# Altium integrated library National Semiconductor OtherParts.IntLib: 205 symbols (part 4 of 7)
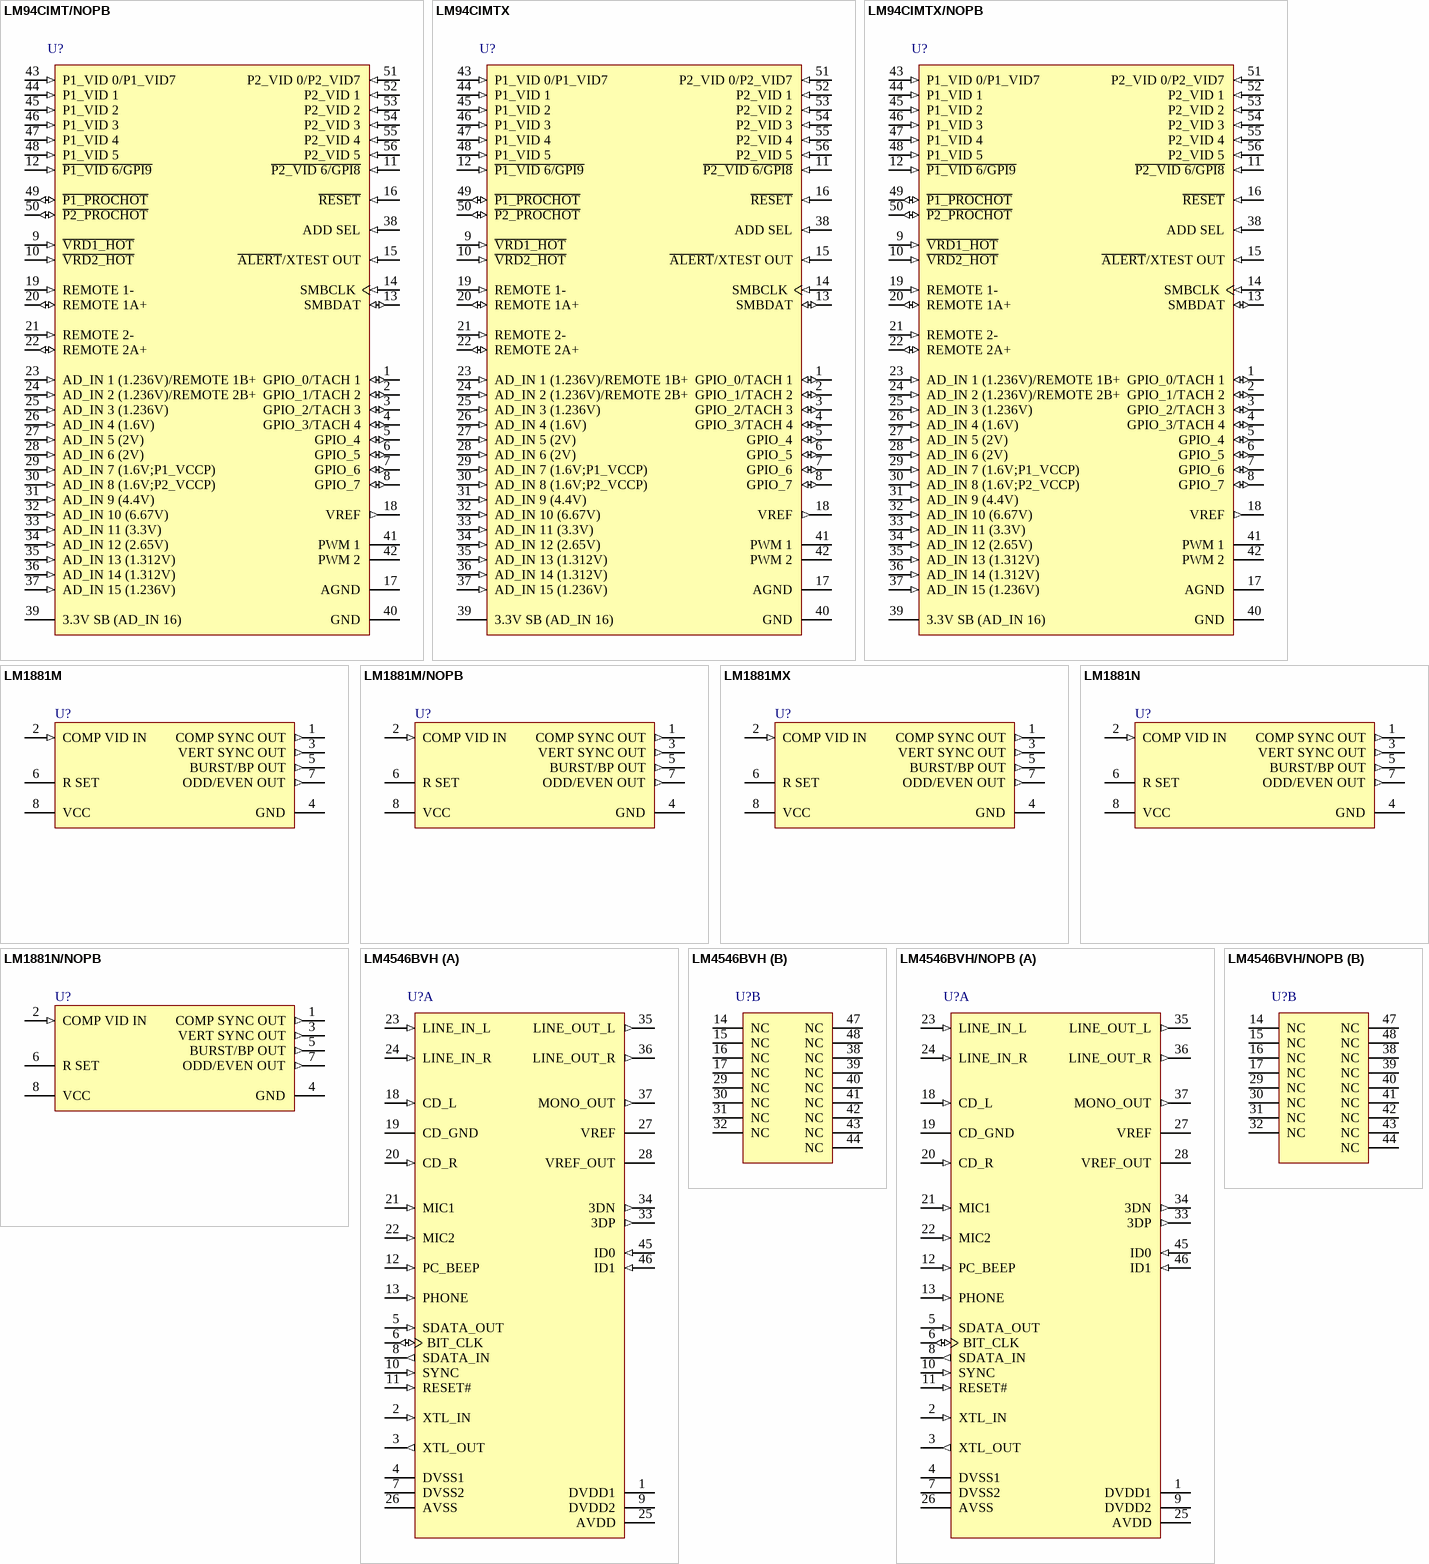
[diagram p15: symbols LM94CIMT/NOPB to LM4546BVH/NOPB]

## LM1881M/NOPB
designator U?
Video Sync Separator, 8-pin Narrow SOIC, Pb-Free; PartNumber: LM1881M/NOPB; Manufacturer: National Semiconductor; PackageTopMarking: NSZXTT*LM*1881M; PowerWise: N; CompType: OtherParts; High-Reliability: Y; DatasheetVersion: May-2006; PackageVersion: revM, May-2009; PackageReference: M08A; PackageDescription: SOIC Narrow, 4.9 x 3.9 x 1.45mm, 8 Lead, 1.27mm Pitch; RoHS: Y; PinCount: 8; Code_JEDEC: MS-012-AA; Code_IPC: SOIC127P600-8; ComponentLink1Description: Manufacturer URL; ComponentLink1URL: http://www.national.com/; ComponentLink2Description: LM1881 Datasheet; ComponentLink2URL: http://www.national.com/ds/LM/LM1881.pdf; ComponentLink3Description: LM1881 Web Page; ComponentLink3URL: http://www.national.com/pf/LM/LM1881.html; ComponentLink4Description: M08A Package Page; ComponentLink4URL: http://www.national.com/packaging/folders/m08a.html
footprint M08A_N (SOIC, 8-Leads, Body 4.9x3.9mm, Pitch 1.27mm, IPC Medium Density)
footprint M08A_L (SOIC, 8-Leads, Body 4.9x3.9mm, Pitch 1.27mm, IPC High Density)
footprint M08A_M (SOIC, 8-Leads, Body 4.9x3.9mm, Pitch 1.27mm, IPC Low Density)
pins: 1 COMP SYNC OUT (out), 2 COMP VID IN (in), 3 VERT SYNC OUT (out), 4 GND (power), 5 BURST/BP OUT (out), 6 R SET, 7 ODD/EVEN OUT (out), 8 VCC (power)

## LM1881MX
designator U?
Video Sync Separator, 8-pin Narrow SOIC; PartNumber: LM1881MX; Manufacturer: National Semiconductor; PackageTopMarking: NSZXTT*LM*1881M; PowerWise: N; CompType: OtherParts; High-Reliability: Y; DatasheetVersion: May-2006; PackageVersion: revM, May-2009; PackageReference: M08A; PackageDescription: SOIC Narrow, 4.9 x 3.9 x 1.45mm, 8 Lead, 1.27mm Pitch; RoHS: N; PinCount: 8; Code_JEDEC: MS-012-AA; Code_IPC: SOIC127P600-8; ComponentLink1Description: Manufacturer URL; ComponentLink1URL: http://www.national.com/; ComponentLink2Description: LM1881 Datasheet; ComponentLink2URL: http://www.national.com/ds/LM/LM1881.pdf; ComponentLink3Description: LM1881 Web Page; ComponentLink3URL: http://www.national.com/pf/LM/LM1881.html; ComponentLink4Description: M08A Package Page; ComponentLink4URL: http://www.national.com/packaging/folders/m08a.html
footprint M08A_N (SOIC, 8-Leads, Body 4.9x3.9mm, Pitch 1.27mm, IPC Medium Density)
footprint M08A_L (SOIC, 8-Leads, Body 4.9x3.9mm, Pitch 1.27mm, IPC High Density)
footprint M08A_M (SOIC, 8-Leads, Body 4.9x3.9mm, Pitch 1.27mm, IPC Low Density)
pins: 1 COMP SYNC OUT (out), 2 COMP VID IN (in), 3 VERT SYNC OUT (out), 4 GND (power), 5 BURST/BP OUT (out), 6 R SET, 7 ODD/EVEN OUT (out), 8 VCC (power)

## LM1881N
designator U?
Video Sync Separator, 8-pin MDIP; PartNumber: LM1881N; Manufacturer: National Semiconductor; PackageTopMarking: NSUZXYTTE#*LM1881N; PowerWise: N; CompType: OtherParts; High-Reliability: Y; DatasheetVersion: May-2006; PackageVersion: revG, May-2006; PackageReference: N08E; PackageDescription: MDIP, .365 x .250 x .130in, 8 Lead, .100in Pitch; RoHS: N; Pin Count: 8; Code_JEDEC: MS-001-BA; ComponentLink1Description: Manufacturer URL; ComponentLink1URL: http://www.national.com/; ComponentLink2Description: LM1881 Datasheet; ComponentLink2URL: http://www.national.com/ds/LM/LM1881.pdf; ComponentLink3Description: LM1881 Web Page; ComponentLink3URL: http://www.national.com/pf/LM/LM1881.html; ComponentLink4Description: N08E Package Page; ComponentLink4URL: http://www.national.com/packaging/folders/n08e.html
footprint N08E (DIP, 8-Leads, Row Spacing 7.62mm, Pitch 2.54mm, Body 9.91x6.35mm)
pins: 1 COMP SYNC OUT (out), 2 COMP VID IN (in), 3 VERT SYNC OUT (out), 4 GND (power), 5 BURST/BP OUT (out), 6 R SET, 7 ODD/EVEN OUT (out), 8 VCC (power)

## LM1881N/NOPB
designator U?
Video Sync Separator, 8-pin MDIP, Pb-Free; PartNumber: LM1881N/NOPB; Manufacturer: National Semiconductor; PackageTopMarking: NSUZXYTTE#*LM1881N; PowerWise: N; CompType: OtherParts; High-Reliability: Y; DatasheetVersion: May-2006; PackageVersion: revG, May-2006; PackageReference: N08E; PackageDescription: MDIP, .365 x .250 x .130in, 8 Lead, .100in Pitch; RoHS: Y; PinCount: 8; Code_JEDEC: MS-001-BA; ComponentLink1Description: Manufacturer URL; ComponentLink1URL: http://www.national.com/; ComponentLink2Description: LM1881 Datasheet; ComponentLink2URL: http://www.national.com/ds/LM/LM1881.pdf; ComponentLink3Description: LM1881 Web Page; ComponentLink3URL: http://www.national.com/pf/LM/LM1881.html; ComponentLink4Description: N08E Package Page; ComponentLink4URL: http://www.national.com/packaging/folders/n08e.html
footprint N08E (DIP, 8-Leads, Row Spacing 7.62mm, Pitch 2.54mm, Body 9.91x6.35mm)
pins: 1 COMP SYNC OUT (out), 2 COMP VID IN (in), 3 VERT SYNC OUT (out), 4 GND (power), 5 BURST/BP OUT (out), 6 R SET, 7 ODD/EVEN OUT (out), 8 VCC (power)

## LM4546BVH
designator U?
AC '97 Rev 2.1 Codec with Sample Rate Conversion and National 3D Sound, 48-pin LQFP; PartNumber: LM4546BVH; Manufacturer: National Semiconductor; PackageTopMarking: NSUZXYTT*LM4546*BVH; PowerWise: N; CompType: OtherParts; High-Reliability: Y; DatasheetVersion: Sep-2006; PackageVersion: revE, May-2007; PackageReference: VBH48A; PackageDescription: LQFP, 7 x 7 x 1.4mm, 48 Lead, 0.5mm Pitch; RoHS: N; PinCount: 48; ComponentLink1Description: Manufacturer URL; ComponentLink1URL: http://www.national.com/; ComponentLink2Description: LM4546B Datasheet; ComponentLink2URL: http://www.national.com/ds/LM/LM4546B.pdf; ComponentLink3Description: LM4546B Web Page; ComponentLink3URL: http://www.national.com/pf/LM/LM4546B.html; ComponentLink4Description: VBH48A Package Page; ComponentLink4URL: http://www.national.com/packaging/folders/vbh48a.html
footprint VBH48A_N (Thin QFP, 48-Leads, Body 7x7mm, Pitch 0.5mm, IPC Medium Density)
footprint VBH48A_L (Thin QFP, 48-Leads, Body 7x7mm, Pitch 0.5mm, IPC High Density)
footprint VBH48A_M (Thin QFP, 48-Leads, Body 7x7mm, Pitch 0.5mm, IPC Low Density)
part A pins: 1 DVDD1 (power), 2 XTL_IN (in), 3 XTL_OUT (out), 4 DVSS1 (power), 5 SDATA_OUT (in), 6 BIT_CLK (io), 7 DVSS2 (power), 8 SDATA_IN (out), 9 DVDD2 (power), 10 SYNC (in), 11 RESET# (in), 12 PC_BEEP (in), 13 PHONE (in), 18 CD_L (in), 19 CD_GND (power), 20 CD_R (in), 21 MIC1 (in), 22 MIC2 (in), 23 LINE_IN_L (in), 24 LINE_IN_R (in), 25 AVDD (power), 26 AVSS (power), 27 VREF (power), 28 VREF_OUT (power), 33 3DP (out), 34 3DN (out), 35 LINE_OUT_L (out), 36 LINE_OUT_R (out), 37 MONO_OUT (out), 45 ID0 (in), 46 ID1 (in)
part B pins: 14 NC, 15 NC, 16 NC, 17 NC, 29 NC, 30 NC, 31 NC, 32 NC, 38 NC, 39 NC, 40 NC, 41 NC, 42 NC, 43 NC, 44 NC, 47 NC, 48 NC

## LM4546BVH/NOPB
designator U?
AC '97 Rev 2.1 Codec with Sample Rate Conversion and National 3D Sound, 48-pin LQFP, Pb-Free; PartNumber: LM4546BVH/NOPB; Manufacturer: National Semiconductor; PackageTopMarking: NSUZXYTT*LM4546*BVH; PowerWise: N; CompType: OtherParts; High-Reliability: Y; DatasheetVersion: Sep-2006; PackageVersion: revE, May-2007; PackageReference: VBH48A; PackageDescription: LQFP, 7 x 7 x 1.4mm, 48 Lead, 0.5mm Pitch; RoHS: Y; PinCount: 48; ComponentLink1Description: Manufacturer URL; ComponentLink1URL: http://www.national.com/; ComponentLink2Description: LM4546B Datasheet; ComponentLink2URL: http://www.national.com/ds/LM/LM4546B.pdf; ComponentLink3Description: LM4546B Web Page; ComponentLink3URL: http://www.national.com/pf/LM/LM4546B.html; ComponentLink4Description: VBH48A Package Page; ComponentLink4URL: http://www.national.com/packaging/folders/vbh48a.html
footprint VBH48A_N (Thin QFP, 48-Leads, Body 7x7mm, Pitch 0.5mm, IPC Medium Density)
footprint VBH48A_L (Thin QFP, 48-Leads, Body 7x7mm, Pitch 0.5mm, IPC High Density)
footprint VBH48A_M (Thin QFP, 48-Leads, Body 7x7mm, Pitch 0.5mm, IPC Low Density)
part A pins: 1 DVDD1 (power), 2 XTL_IN (in), 3 XTL_OUT (out), 4 DVSS1 (power), 5 SDATA_OUT (in), 6 BIT_CLK (io), 7 DVSS2 (power), 8 SDATA_IN (out), 9 DVDD2 (power), 10 SYNC (in), 11 RESET# (in), 12 PC_BEEP (in), 13 PHONE (in), 18 CD_L (in), 19 CD_GND (power), 20 CD_R (in), 21 MIC1 (in), 22 MIC2 (in), 23 LINE_IN_L (in), 24 LINE_IN_R (in), 25 AVDD (power), 26 AVSS (power), 27 VREF (power), 28 VREF_OUT (power), 33 3DP (out), 34 3DN (out), 35 LINE_OUT_L (out), 36 LINE_OUT_R (out), 37 MONO_OUT (out), 45 ID0 (in), 46 ID1 (in)
part B pins: 14 NC, 15 NC, 16 NC, 17 NC, 29 NC, 30 NC, 31 NC, 32 NC, 38 NC, 39 NC, 40 NC, 41 NC, 42 NC, 43 NC, 44 NC, 47 NC, 48 NC

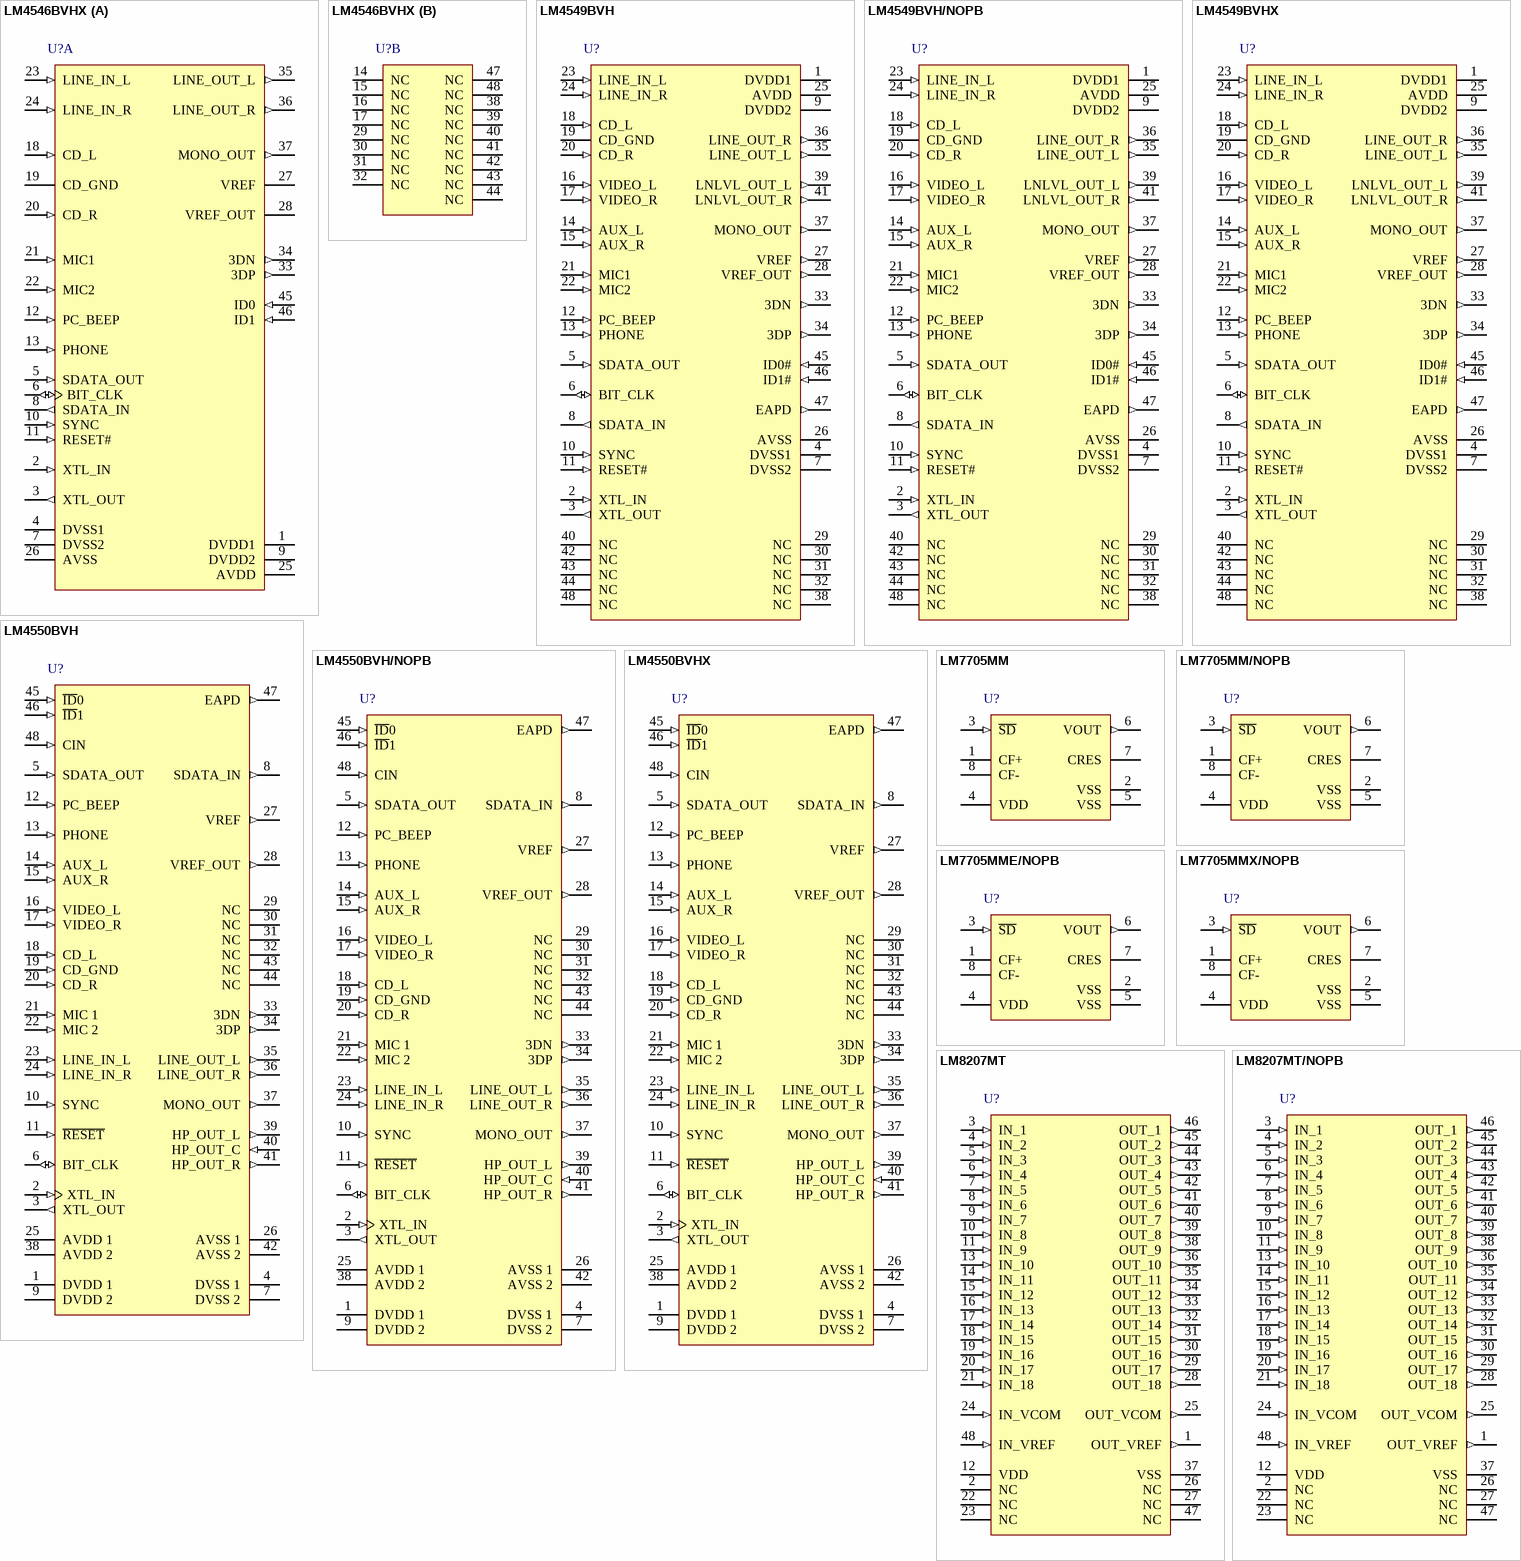
[diagram p5: symbols LM4546BVHX to LM8207MT/NOPB]

## LM4546BVHX
designator U?
AC '97 Rev 2.1 Codec with Sample Rate Conversion and National 3D Sound, 48-pin LQFP; PartNumber: LM4546BVHX; Manufacturer: National Semiconductor; PackageTopMarking: NSUZXYTT*LM4546*BVH; PowerWise: N; CompType: OtherParts; High-Reliability: Y; DatasheetVersion: Sep-2006; PackageVersion: revE, May-2007; PackageReference: VBH48A; PackageDescription: LQFP, 7 x 7 x 1.4mm, 48 Lead, 0.5mm Pitch; RoHS: N; PinCount: 48; ComponentLink1Description: Manufacturer URL; ComponentLink1URL: http://www.national.com/; ComponentLink2Description: LM4546B Datasheet; ComponentLink2URL: http://www.national.com/ds/LM/LM4546B.pdf; ComponentLink3Description: LM4546B Web Page; ComponentLink3URL: http://www.national.com/pf/LM/LM4546B.html; ComponentLink4Description: VBH48A Package Page; ComponentLink4URL: http://www.national.com/packaging/folders/vbh48a.html
footprint VBH48A_N (Thin QFP, 48-Leads, Body 7x7mm, Pitch 0.5mm, IPC Medium Density)
footprint VBH48A_L (Thin QFP, 48-Leads, Body 7x7mm, Pitch 0.5mm, IPC High Density)
footprint VBH48A_M (Thin QFP, 48-Leads, Body 7x7mm, Pitch 0.5mm, IPC Low Density)
part A pins: 1 DVDD1 (power), 2 XTL_IN (in), 3 XTL_OUT (out), 4 DVSS1 (power), 5 SDATA_OUT (in), 6 BIT_CLK (io), 7 DVSS2 (power), 8 SDATA_IN (out), 9 DVDD2 (power), 10 SYNC (in), 11 RESET# (in), 12 PC_BEEP (in), 13 PHONE (in), 18 CD_L (in), 19 CD_GND (power), 20 CD_R (in), 21 MIC1 (in), 22 MIC2 (in), 23 LINE_IN_L (in), 24 LINE_IN_R (in), 25 AVDD (power), 26 AVSS (power), 27 VREF (power), 28 VREF_OUT (power), 33 3DP (out), 34 3DN (out), 35 LINE_OUT_L (out), 36 LINE_OUT_R (out), 37 MONO_OUT (out), 45 ID0 (in), 46 ID1 (in)
part B pins: 14 NC, 15 NC, 16 NC, 17 NC, 29 NC, 30 NC, 31 NC, 32 NC, 38 NC, 39 NC, 40 NC, 41 NC, 42 NC, 43 NC, 44 NC, 47 NC, 48 NC

## LM4549BVH
designator U?
AC '97 Rev 2.1 Codec with Sample Rate Conversion and National 3D Sound, 48-pin LQFP; PartNumber: LM4549BVH; Manufacturer: National Semiconductor; PackageTopMarking: NSUZXYTT*LM4549*BVH; PowerWise: N; CompType: OtherParts; High-Reliability: Y; DatasheetVersion: Sep-2006; PackageVersion: revE, May-2007; PackageReference: VBH48A; PackageDescription: LQFP, 7 x 7 x 1.4mm, 48 Lead, 0.5mm Pitch; RoHS: N; PinCount: 48; ComponentLink1Description: Manufacturer URL; ComponentLink1URL: http://www.national.com/; ComponentLink2Description: LM4549B Datasheet; ComponentLink2URL: http://www.national.com/ds/LM/LM4549B.pdf; ComponentLink3Description: LM4549B Web Page; ComponentLink3URL: http://www.national.com/pf/LM/LM4549B.html; ComponentLink4Description: VBH48A Package Page; ComponentLink4URL: http://www.national.com/packaging/folders/vbh48a.html
footprint VBH48A_N (Thin QFP, 48-Leads, Body 7x7mm, Pitch 0.5mm, IPC Medium Density)
footprint VBH48A_L (Thin QFP, 48-Leads, Body 7x7mm, Pitch 0.5mm, IPC High Density)
footprint VBH48A_M (Thin QFP, 48-Leads, Body 7x7mm, Pitch 0.5mm, IPC Low Density)
pins: 1 DVDD1 (power), 2 XTL_IN (in), 3 XTL_OUT (out), 4 DVSS1 (power), 5 SDATA_OUT (in), 6 BIT_CLK (io), 7 DVSS2 (power), 8 SDATA_IN (out), 9 DVDD2 (power), 10 SYNC (in), 11 RESET# (in), 12 PC_BEEP (in), 13 PHONE (in), 14 AUX_L (in), 15 AUX_R (in), 16 VIDEO_L (in), 17 VIDEO_R (in), 18 CD_L (in), 19 CD_GND (power), 20 CD_R (in), 21 MIC1 (in), 22 MIC2 (in), 23 LINE_IN_L (in), 24 LINE_IN_R (in), 25 AVDD (power), 26 AVSS (power), 27 VREF (out), 28 VREF_OUT (out), 29 NC, 30 NC, 31 NC, 32 NC, 33 3DN (out), 34 3DP (out), 35 LINE_OUT_L (out), 36 LINE_OUT_R (out), 37 MONO_OUT (out), 38 NC, 39 LNLVL_OUT_L (out), 40 NC, 41 LNLVL_OUT_R (out), 42 NC, 43 NC, 44 NC, 45 ID0# (in), 46 ID1# (in), 47 EAPD (out), 48 NC

## LM4549BVH/NOPB
designator U?
AC '97 Rev 2.1 Codec with Sample Rate Conversion and National 3D Sound, 48-pin LQFP, Pb-Free; PartNumber: LM4549BVH/NOPB; Manufacturer: National Semiconductor; PackageTopMarking: NSUZXYTT*LM4549*BVH; PowerWise: N; CompType: OtherParts; High-Reliability: Y; DatasheetVersion: Sep-2006; PackageVersion: revE, May-2007; PackageReference: VBH48A; PackageDescription: LQFP, 7 x 7 x 1.4mm, 48 Lead, 0.5mm Pitch; RoHS: Y; PinCount: 48; ComponentLink1Description: Manufacturer URL; ComponentLink1URL: http://www.national.com/; ComponentLink2Description: LM4549B Datasheet; ComponentLink2URL: http://www.national.com/ds/LM/LM4549B.pdf; ComponentLink3Description: LM4549B Web Page; ComponentLink3URL: http://www.national.com/pf/LM/LM4549B.html; ComponentLink4Description: VBH48A Package Page; ComponentLink4URL: http://www.national.com/packaging/folders/vbh48a.html
footprint VBH48A_N (Thin QFP, 48-Leads, Body 7x7mm, Pitch 0.5mm, IPC Medium Density)
footprint VBH48A_L (Thin QFP, 48-Leads, Body 7x7mm, Pitch 0.5mm, IPC High Density)
footprint VBH48A_M (Thin QFP, 48-Leads, Body 7x7mm, Pitch 0.5mm, IPC Low Density)
pins: 1 DVDD1 (power), 2 XTL_IN (in), 3 XTL_OUT (out), 4 DVSS1 (power), 5 SDATA_OUT (in), 6 BIT_CLK (io), 7 DVSS2 (power), 8 SDATA_IN (out), 9 DVDD2 (power), 10 SYNC (in), 11 RESET# (in), 12 PC_BEEP (in), 13 PHONE (in), 14 AUX_L (in), 15 AUX_R (in), 16 VIDEO_L (in), 17 VIDEO_R (in), 18 CD_L (in), 19 CD_GND (power), 20 CD_R (in), 21 MIC1 (in), 22 MIC2 (in), 23 LINE_IN_L (in), 24 LINE_IN_R (in), 25 AVDD (power), 26 AVSS (power), 27 VREF (out), 28 VREF_OUT (out), 29 NC, 30 NC, 31 NC, 32 NC, 33 3DN (out), 34 3DP (out), 35 LINE_OUT_L (out), 36 LINE_OUT_R (out), 37 MONO_OUT (out), 38 NC, 39 LNLVL_OUT_L (out), 40 NC, 41 LNLVL_OUT_R (out), 42 NC, 43 NC, 44 NC, 45 ID0# (in), 46 ID1# (in), 47 EAPD (out), 48 NC

## LM4549BVHX
designator U?
AC '97 Rev 2.1 Codec with Sample Rate Conversion and National 3D Sound, 48-pin LQFP; PartNumber: LM4549BVHX; Manufacturer: National Semiconductor; PackageTopMarking: NSUZXYTT*LM4549*BVH; PowerWise: N; CompType: OtherParts; High-Reliability: Y; DatasheetVersion: Sep-2006; PackageVersion: revE, May-2007; PackageReference: VBH48A; PackageDescription: LQFP, 7 x 7 x 1.4mm, 48 Lead, 0.5mm Pitch; RoHS: N; PinCount: 48; ComponentLink1Description: Manufacturer URL; ComponentLink1URL: http://www.national.com/; ComponentLink2Description: LM4549B Datasheet; ComponentLink2URL: http://www.national.com/ds/LM/LM4549B.pdf; ComponentLink3Description: LM4549B Web Page; ComponentLink3URL: http://www.national.com/pf/LM/LM4549B.html; ComponentLink4Description: VBH48A Package Page; ComponentLink4URL: http://www.national.com/packaging/folders/vbh48a.html
footprint VBH48A_N (Thin QFP, 48-Leads, Body 7x7mm, Pitch 0.5mm, IPC Medium Density)
footprint VBH48A_L (Thin QFP, 48-Leads, Body 7x7mm, Pitch 0.5mm, IPC High Density)
footprint VBH48A_M (Thin QFP, 48-Leads, Body 7x7mm, Pitch 0.5mm, IPC Low Density)
pins: 1 DVDD1 (power), 2 XTL_IN (in), 3 XTL_OUT (out), 4 DVSS1 (power), 5 SDATA_OUT (in), 6 BIT_CLK (io), 7 DVSS2 (power), 8 SDATA_IN (out), 9 DVDD2 (power), 10 SYNC (in), 11 RESET# (in), 12 PC_BEEP (in), 13 PHONE (in), 14 AUX_L (in), 15 AUX_R (in), 16 VIDEO_L (in), 17 VIDEO_R (in), 18 CD_L (in), 19 CD_GND (power), 20 CD_R (in), 21 MIC1 (in), 22 MIC2 (in), 23 LINE_IN_L (in), 24 LINE_IN_R (in), 25 AVDD (power), 26 AVSS (power), 27 VREF (out), 28 VREF_OUT (out), 29 NC, 30 NC, 31 NC, 32 NC, 33 3DN (out), 34 3DP (out), 35 LINE_OUT_L (out), 36 LINE_OUT_R (out), 37 MONO_OUT (out), 38 NC, 39 LNLVL_OUT_L (out), 40 NC, 41 LNLVL_OUT_R (out), 42 NC, 43 NC, 44 NC, 45 ID0# (in), 46 ID1# (in), 47 EAPD (out), 48 NC

## LM4550BVH
designator U?
AC '97 Rev 2.1 Codec with Sample Rate Conversion and National 3D Sound, 48-pin LQFP; PartNumber: LM4550BVH; Manufacturer: National Semiconductor; PackageTopMarking: NSUZXYTT*LM4550*BVH; PowerWise: N; CompType: OtherParts; High-Reliability: Y; DatasheetVersion: Sep-2006; PackageVersion: revE, May-2007; PackageReference: VBH48A; PackageDescription: LQFP, 7 x 7 x 1.4mm, 48 Lead, 0.5mm Pitch; RoHS: N; PinCount: 48; ComponentLink1Description: Manufacturer URL; ComponentLink1URL: http://www.national.com/; ComponentLink2Description: LM4550B Datasheet; ComponentLink2URL: http://www.national.com/ds/LM/LM4550B.pdf; ComponentLink3Description: LM4550B Web Page; ComponentLink3URL: http://www.national.com/pf/LM/LM4550B.html; ComponentLink4Description: VBH48A Package Page; ComponentLink4URL: http://www.national.com/packaging/folders/vbh48a.html
footprint VBH48A_N (Thin QFP, 48-Leads, Body 7x7mm, Pitch 0.5mm, IPC Medium Density)
footprint VBH48A_L (Thin QFP, 48-Leads, Body 7x7mm, Pitch 0.5mm, IPC High Density)
footprint VBH48A_M (Thin QFP, 48-Leads, Body 7x7mm, Pitch 0.5mm, IPC Low Density)
pins: 1 DVDD 1 (power), 2 XTL_IN (in), 3 XTL_OUT (out), 4 DVSS 1 (power), 5 SDATA_OUT (in), 6 BIT_CLK (io), 7 DVSS 2 (power), 8 SDATA_IN (out), 9 DVDD 2 (power), 10 SYNC (in), 11 ~{RESET} (in), 12 PC_BEEP (in), 13 PHONE (in), 14 AUX_L (in), 15 AUX_R (in), 16 VIDEO_L (in), 17 VIDEO_R (in), 18 CD_L (in), 19 CD_GND (in), 20 CD_R (in), 21 MIC 1 (in), 22 MIC 2 (in), 23 LINE_IN_L (in), 24 LINE_IN_R (in), 25 AVDD 1 (power), 26 AVSS 1 (power), 27 VREF (out), 28 VREF_OUT (out), 29 NC, 30 NC, 31 NC, 32 NC, 33 3DN (out), 34 3DP (out), 35 LINE_OUT_L (out), 36 LINE_OUT_R (out), 37 MONO_OUT (out), 38 AVDD 2 (power), 39 HP_OUT_L (out), 40 HP_OUT_C (in), 41 HP_OUT_R (out), 42 AVSS 2 (power), 43 NC, 44 NC, 45 ~{ID}0 (in), 46 ~{ID}1 (in), 47 EAPD (out), 48 CIN (in)

## LM4550BVH/NOPB
designator U?
AC '97 Rev 2.1 Codec with Sample Rate Conversion and National 3D Sound, 48-pin LQFP, Pb-Free; PartNumber: LM4550BVH/NOPB; Manufacturer: National Semiconductor; PackageTopMarking: NSUZXYTT*LM4550*BVH; PowerWise: N; CompType: OtherParts; High-Reliability: Y; DatasheetVersion: Sep-2006; PackageVersion: revE, May-2007; PackageReference: VBH48A; PackageDescription: LQFP, 7 x 7 x 1.4mm, 48 Lead, 0.5mm Pitch; RoHS: Y; PinCount: 48; ComponentLink1Description: Manufacturer URL; ComponentLink1URL: http://www.national.com/; ComponentLink2Description: LM4550B Datasheet; ComponentLink2URL: http://www.national.com/ds/LM/LM4550B.pdf; ComponentLink3Description: LM4550B Web Page; ComponentLink3URL: http://www.national.com/pf/LM/LM4550B.html; ComponentLink4Description: VBH48A Package Page; ComponentLink4URL: http://www.national.com/packaging/folders/vbh48a.html
footprint VBH48A_N (Thin QFP, 48-Leads, Body 7x7mm, Pitch 0.5mm, IPC Medium Density)
footprint VBH48A_L (Thin QFP, 48-Leads, Body 7x7mm, Pitch 0.5mm, IPC High Density)
footprint VBH48A_M (Thin QFP, 48-Leads, Body 7x7mm, Pitch 0.5mm, IPC Low Density)
pins: 1 DVDD 1 (power), 2 XTL_IN (in), 3 XTL_OUT (out), 4 DVSS 1 (power), 5 SDATA_OUT (in), 6 BIT_CLK (io), 7 DVSS 2 (power), 8 SDATA_IN (out), 9 DVDD 2 (power), 10 SYNC (in), 11 ~{RESET} (in), 12 PC_BEEP (in), 13 PHONE (in), 14 AUX_L (in), 15 AUX_R (in), 16 VIDEO_L (in), 17 VIDEO_R (in), 18 CD_L (in), 19 CD_GND (in), 20 CD_R (in), 21 MIC 1 (in), 22 MIC 2 (in), 23 LINE_IN_L (in), 24 LINE_IN_R (in), 25 AVDD 1 (power), 26 AVSS 1 (power), 27 VREF (out), 28 VREF_OUT (out), 29 NC, 30 NC, 31 NC, 32 NC, 33 3DN (out), 34 3DP (out), 35 LINE_OUT_L (out), 36 LINE_OUT_R (out), 37 MONO_OUT (out), 38 AVDD 2 (power), 39 HP_OUT_L (out), 40 HP_OUT_C (in), 41 HP_OUT_R (out), 42 AVSS 2 (power), 43 NC, 44 NC, 45 ~{ID}0 (in), 46 ~{ID}1 (in), 47 EAPD (out), 48 CIN (in)

## LM4550BVHX
designator U?
AC '97 Rev 2.1 Codec with Sample Rate Conversion and National 3D Sound, 48-pin LQFP; PartNumber: LM4550BVHX; Manufacturer: National Semiconductor; PackageTopMarking: NSUZXYTT*LM4550*BVH; PowerWise: N; CompType: OtherParts; High-Reliability: Y; DatasheetVersion: Sep-2006; PackageVersion: revE, May-2007; PackageReference: VBH48A; PackageDescription: LQFP, 7 x 7 x 1.4mm, 48 Lead, 0.5mm Pitch; RoHS: N; PinCount: 48; ComponentLink1Description: Manufacturer URL; ComponentLink1URL: http://www.national.com/; ComponentLink2Description: LM4550B Datasheet; ComponentLink2URL: http://www.national.com/ds/LM/LM4550B.pdf; ComponentLink3Description: LM4550B Web Page; ComponentLink3URL: http://www.national.com/pf/LM/LM4550B.html; ComponentLink4Description: VBH48A Package Page; ComponentLink4URL: http://www.national.com/packaging/folders/vbh48a.html
footprint VBH48A_N (Thin QFP, 48-Leads, Body 7x7mm, Pitch 0.5mm, IPC Medium Density)
footprint VBH48A_L (Thin QFP, 48-Leads, Body 7x7mm, Pitch 0.5mm, IPC High Density)
footprint VBH48A_M (Thin QFP, 48-Leads, Body 7x7mm, Pitch 0.5mm, IPC Low Density)
pins: 1 DVDD 1 (power), 2 XTL_IN (in), 3 XTL_OUT (out), 4 DVSS 1 (power), 5 SDATA_OUT (in), 6 BIT_CLK (io), 7 DVSS 2 (power), 8 SDATA_IN (out), 9 DVDD 2 (power), 10 SYNC (in), 11 ~{RESET} (in), 12 PC_BEEP (in), 13 PHONE (in), 14 AUX_L (in), 15 AUX_R (in), 16 VIDEO_L (in), 17 VIDEO_R (in), 18 CD_L (in), 19 CD_GND (in), 20 CD_R (in), 21 MIC 1 (in), 22 MIC 2 (in), 23 LINE_IN_L (in), 24 LINE_IN_R (in), 25 AVDD 1 (power), 26 AVSS 1 (power), 27 VREF (out), 28 VREF_OUT (out), 29 NC, 30 NC, 31 NC, 32 NC, 33 3DN (out), 34 3DP (out), 35 LINE_OUT_L (out), 36 LINE_OUT_R (out), 37 MONO_OUT (out), 38 AVDD 2 (power), 39 HP_OUT_L (out), 40 HP_OUT_C (in), 41 HP_OUT_R (out), 42 AVSS 2 (power), 43 NC, 44 NC, 45 ~{ID}0 (in), 46 ~{ID}1 (in), 47 EAPD (out), 48 CIN (in)

## LM7705MM
designator U?
Low Noise Negative Bias Generator, 8-pin Mini SOIC; PartNumber: LM7705MM; Manufacturer: National Semiconductor; PackageTopMarking: THHD*XTT; PowerWise: N; CompType: OtherParts; High-Reliability: Y; DatasheetVersion: Jun-2009; PackageVersion: revF, Apr-2008; PackageReference: MUA08A; PackageDescription: MINI SOIC, .118 x .118 x .034in, 8 Lead, .0256in Pitch; RoHS: Y; PinCount: 8; Code_JEDEC: MO-187-AA; ComponentLink1Description: Manufacturer URL; ComponentLink1URL: http://www.national.com/; ComponentLink2Description: LM7705 Datasheet; ComponentLink2URL: http://www.national.com/ds/LM/LM7705.pdf; ComponentLink3Description: LM7705 Web Page; ComponentLink3URL: http://www.national.com/pf/LM/LM7705.html; ComponentLink4Description: MUA08A Package Page; ComponentLink4URL: http://www.national.com/packaging/folders/mua08a.html
footprint MUA08A_N (TSOP, 8-Leads, Body 3x3mm, Pitch 0.65mm, IPC Medium Density)
footprint MUA08A_L (TSOP, 8-Leads, Body 3x3mm, Pitch 0.65mm, IPC High Density)
footprint MUA08A_M (TSOP, 8-Leads, Body 3x3mm, Pitch 0.65mm, IPC Low Density)
pins: 1 CF+, 2 VSS (power), 3 ~{SD} (in), 4 VDD (power), 5 VSS (power), 6 VOUT (out), 7 CRES, 8 CF-

## LM7705MM/NOPB
designator U?
Low Noise Negative Bias Generator, 8-pin Mini SOIC, Pb-Free; PartNumber: LM7705MM/NOPB; Manufacturer: National Semiconductor; PackageTopMarking: ZXTT*F26A; PowerWise: N; CompType: OtherParts; High-Reliability: Y; DatasheetVersion: Jun-2009; PackageVersion: revF, Apr-2008; PackageReference: MUA08A; PackageDescription: MINI SOIC, .118 x .118 x .034in, 8 Lead, .0256in Pitch; RoHS: Y; PinCount: 8; Code_JEDEC: MO-187-AA; ComponentLink1Description: Manufacturer URL; ComponentLink1URL: http://www.national.com/; ComponentLink2Description: LM7705 Datasheet; ComponentLink2URL: http://www.national.com/ds/LM/LM7705.pdf; ComponentLink3Description: LM7705 Web Page; ComponentLink3URL: http://www.national.com/pf/LM/LM7705.html; ComponentLink4Description: MUA08A Package Page; ComponentLink4URL: http://www.national.com/packaging/folders/mua08a.html
footprint MUA08A_N (TSOP, 8-Leads, Body 3x3mm, Pitch 0.65mm, IPC Medium Density)
footprint MUA08A_L (TSOP, 8-Leads, Body 3x3mm, Pitch 0.65mm, IPC High Density)
footprint MUA08A_M (TSOP, 8-Leads, Body 3x3mm, Pitch 0.65mm, IPC Low Density)
pins: 1 CF+, 2 VSS (power), 3 ~{SD} (in), 4 VDD (power), 5 VSS (power), 6 VOUT (out), 7 CRES, 8 CF-

## LM7705MME/NOPB
designator U?
Low Noise Negative Bias Generator, 8-pin Mini SOIC, Pb-Free; PartNumber: LM7705MME/NOPB; Manufacturer: National Semiconductor; PackageTopMarking: ZXTT*F26A; PowerWise: N; CompType: OtherParts; High-Reliability: Y; DatasheetVersion: Jun-2009; PackageVersion: revF, Apr-2008; PackageReference: MUA08A; PackageDescription: MINI SOIC, .118 x .118 x .034in, 8 Lead, .0256in Pitch; RoHS: Y; PinCount: 8; Code_JEDEC: MO-187-AA; ComponentLink1Description: Manufacturer URL; ComponentLink1URL: http://www.national.com/; ComponentLink2Description: LM7705 Datasheet; ComponentLink2URL: http://www.national.com/ds/LM/LM7705.pdf; ComponentLink3Description: LM7705 Web Page; ComponentLink3URL: http://www.national.com/pf/LM/LM7705.html; ComponentLink4Description: MUA08A Package Page; ComponentLink4URL: http://www.national.com/packaging/folders/mua08a.html
footprint MUA08A_N (TSOP, 8-Leads, Body 3x3mm, Pitch 0.65mm, IPC Medium Density)
footprint MUA08A_L (TSOP, 8-Leads, Body 3x3mm, Pitch 0.65mm, IPC High Density)
footprint MUA08A_M (TSOP, 8-Leads, Body 3x3mm, Pitch 0.65mm, IPC Low Density)
pins: 1 CF+, 2 VSS (power), 3 ~{SD} (in), 4 VDD (power), 5 VSS (power), 6 VOUT (out), 7 CRES, 8 CF-

## LM7705MMX/NOPB
designator U?
Low Noise Negative Bias Generator, 8-pin Mini SOIC, Pb-Free; PartNumber: LM7705MMX/NOPB; Manufacturer: National Semiconductor; PackageTopMarking: ZXTT*F26A; PowerWise: N; CompType: OtherParts; High-Reliability: Y; DatasheetVersion: Jun-2009; PackageVersion: revF, Apr-2008; PackageReference: MUA08A; PackageDescription: MINI SOIC, .118 x .118 x .034in, 8 Lead, .0256in Pitch; RoHS: Y; PinCount: 8; Code_JEDEC: MO-187-AA; ComponentLink1Description: Manufacturer URL; ComponentLink1URL: http://www.national.com/; ComponentLink2Description: LM7705 Datasheet; ComponentLink2URL: http://www.national.com/ds/LM/LM7705.pdf; ComponentLink3Description: LM7705 Web Page; ComponentLink3URL: http://www.national.com/pf/LM/LM7705.html; ComponentLink4Description: MUA08A Package Page; ComponentLink4URL: http://www.national.com/packaging/folders/mua08a.html
footprint MUA08A_N (TSOP, 8-Leads, Body 3x3mm, Pitch 0.65mm, IPC Medium Density)
footprint MUA08A_L (TSOP, 8-Leads, Body 3x3mm, Pitch 0.65mm, IPC High Density)
footprint MUA08A_M (TSOP, 8-Leads, Body 3x3mm, Pitch 0.65mm, IPC Low Density)
pins: 1 CF+, 2 VSS (power), 3 ~{SD} (in), 4 VDD (power), 5 VSS (power), 6 VOUT (out), 7 CRES, 8 CF-

## LM8207MT
designator U?
TFT 18 Gamma Buffer + Vcom Driver + Voltage Reference, 48-pin TSSOP; PartNumber: LM8207MT; Manufacturer: National Semiconductor; PackageTopMarking: NSUZXYTTE#*LM8207MT; PowerWise: N; CompType: OtherParts; High-Reliability: Y; DatasheetVersion: Sep-2005; PackageVersion: revE, Apr-2003; PackageReference: MTD48; PackageDescription: Molded TSSOP, Jedec, 12.5 x 6.1 x 0.9mm Body, 48 Lead, 0.50mm Pitch; RoHS: N; PinCount: 48; Code_JEDEC: MO-153-ED; ComponentLink1Description: Manufacturer URL; ComponentLink1URL: http://www.national.com/; ComponentLink2Description: LM8207 Datasheet; ComponentLink2URL: http://www.national.com/ds/LM/LM8207.pdf; ComponentLink3Description: LM8207 Web Page; ComponentLink3URL: http://www.national.com/pf/LM/LM8207.html; ComponentLink4Description: MTD48 Package Page; ComponentLink4URL: http://www.national.com/packaging/folders/mtd48.html
footprint MTD48_N (TSSOP, 48-Leads, Body 12.5x6.1mm, Pitch 0.5mm, IPC Medium Density)
footprint MTD48_L (TSSOP, 48-Leads, Body 12.5x6.1mm, Pitch 0.5mm, IPC High Density)
footprint MTD48_M (TSSOP, 48-Leads, Body 12.5x6.1mm, Pitch 0.5mm, IPC Low Density)
pins: 1 OUT_VREF (out), 2 NC, 3 IN_1 (in), 4 IN_2 (in), 5 IN_3 (in), 6 IN_4 (in), 7 IN_5 (in), 8 IN_6 (in), 9 IN_7 (in), 10 IN_8 (in), 11 IN_9 (in), 12 VDD (power), 13 IN_10 (in), 14 IN_11 (in), 15 IN_12 (in), 16 IN_13 (in), 17 IN_14 (in), 18 IN_15 (in), 19 IN_16 (in), 20 IN_17 (in), 21 IN_18 (in), 22 NC, 23 NC, 24 IN_VCOM (in), 25 OUT_VCOM (out), 26 NC, 27 NC, 28 OUT_18 (out), 29 OUT_17 (out), 30 OUT_16 (out), 31 OUT_15 (out), 32 OUT_14 (out), 33 OUT_13 (out), 34 OUT_12 (out), 35 OUT_11 (out), 36 OUT_10 (out), 37 VSS (power), 38 OUT_9 (out), 39 OUT_8 (out), 40 OUT_7 (out), 41 OUT_6 (out), 42 OUT_5 (out), 43 OUT_4 (out), 44 OUT_3 (out), 45 OUT_2 (out), 46 OUT_1 (out), 47 NC, 48 IN_VREF (in)

## LM8207MT/NOPB
designator U?
TFT 18 Gamma Buffer + Vcom Driver + Voltage Reference, 48-pin TSSOP, Pb-Free; PartNumber: LM8207MT/NOPB; Manufacturer: National Semiconductor; PackageTopMarking: NSUZXYTTE#*LM8207MT; PowerWise: N; CompType: OtherParts; High-Reliability: Y; DatasheetVersion: Sep-2005; PackageVersion: revE, Apr-2003; PackageReference: MTD48; PackageDescription: Molded TSSOP, Jedec, 12.5 x 6.1 x 0.9mm Body, 48 Lead, 0.50mm Pitch; RoHS: Y; PinCount: 48; Code_JEDEC: MO-153-ED; ComponentLink1Description: Manufacturer URL; ComponentLink1URL: http://www.national.com/; ComponentLink2Description: LM8207 Datasheet; ComponentLink2URL: http://www.national.com/ds/LM/LM8207.pdf; ComponentLink3Description: LM8207 Web Page; ComponentLink3URL: http://www.national.com/pf/LM/LM8207.html; ComponentLink4Description: MTD48 Package Page; ComponentLink4URL: http://www.national.com/packaging/folders/mtd48.html
footprint MTD48_N (TSSOP, 48-Leads, Body 12.5x6.1mm, Pitch 0.5mm, IPC Medium Density)
footprint MTD48_L (TSSOP, 48-Leads, Body 12.5x6.1mm, Pitch 0.5mm, IPC High Density)
footprint MTD48_M (TSSOP, 48-Leads, Body 12.5x6.1mm, Pitch 0.5mm, IPC Low Density)
pins: 1 OUT_VREF (out), 2 NC, 3 IN_1 (in), 4 IN_2 (in), 5 IN_3 (in), 6 IN_4 (in), 7 IN_5 (in), 8 IN_6 (in), 9 IN_7 (in), 10 IN_8 (in), 11 IN_9 (in), 12 VDD (power), 13 IN_10 (in), 14 IN_11 (in), 15 IN_12 (in), 16 IN_13 (in), 17 IN_14 (in), 18 IN_15 (in), 19 IN_16 (in), 20 IN_17 (in), 21 IN_18 (in), 22 NC, 23 NC, 24 IN_VCOM (in), 25 OUT_VCOM (out), 26 NC, 27 NC, 28 OUT_18 (out), 29 OUT_17 (out), 30 OUT_16 (out), 31 OUT_15 (out), 32 OUT_14 (out), 33 OUT_13 (out), 34 OUT_12 (out), 35 OUT_11 (out), 36 OUT_10 (out), 37 VSS (power), 38 OUT_9 (out), 39 OUT_8 (out), 40 OUT_7 (out), 41 OUT_6 (out), 42 OUT_5 (out), 43 OUT_4 (out), 44 OUT_3 (out), 45 OUT_2 (out), 46 OUT_1 (out), 47 NC, 48 IN_VREF (in)

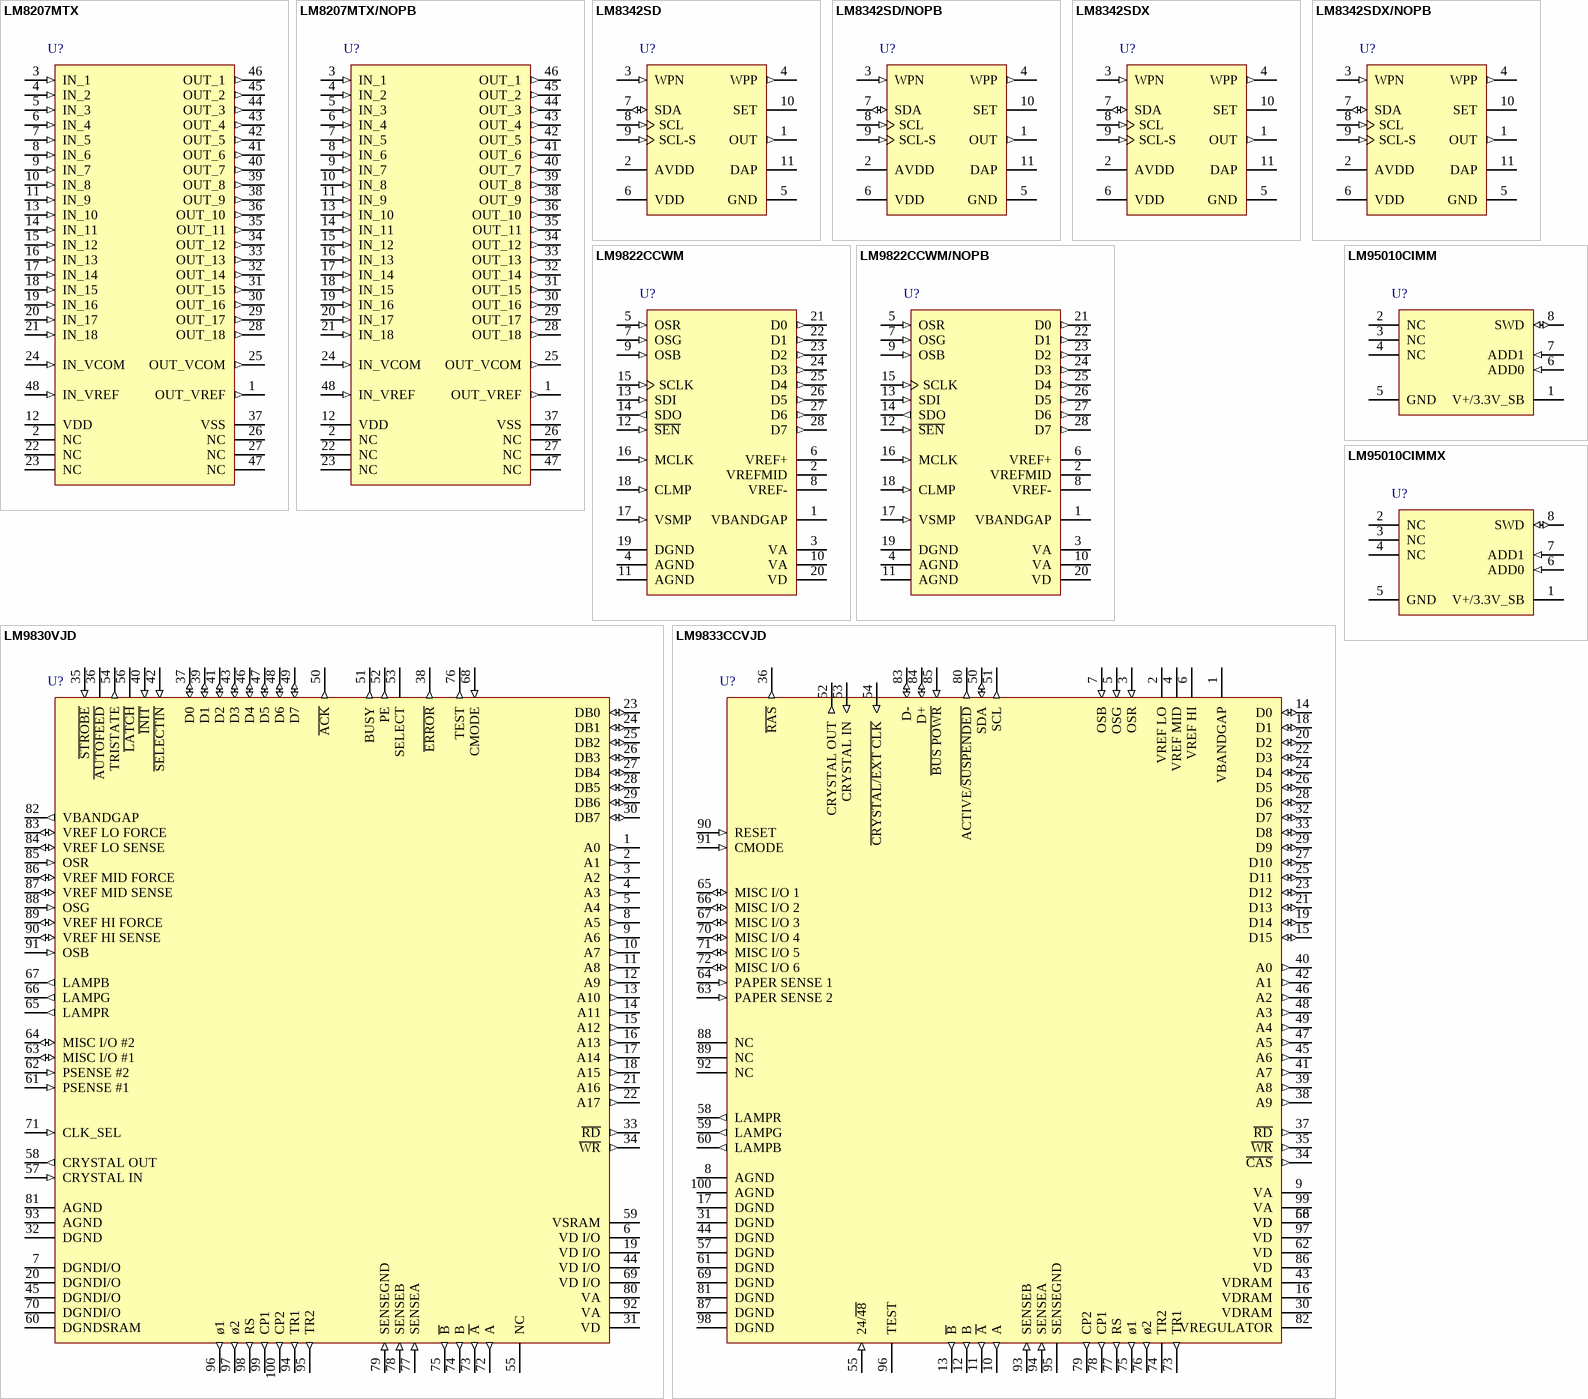
[diagram p6: symbols LM8207MTX to LM95010CIMMX]

## LM8207MTX
designator U?
TFT 18 Gamma Buffer + Vcom Driver + Voltage Reference, 48-pin TSSOP; PartNumber: LM8207MTX; Manufacturer: National Semiconductor; PackageTopMarking: NSUZXYTTE#*LM8207MT; PowerWise: N; CompType: OtherParts; High-Reliability: Y; DatasheetVersion: Sep-2005; PackageVersion: revE, Apr-2003; PackageReference: MTD48; PackageDescription: Molded TSSOP, Jedec, 12.5 x 6.1 x 0.9mm Body, 48 Lead, 0.50mm Pitch; RoHS: N; PinCount: 48; Code_JEDEC: MO-153-ED; ComponentLink1Description: Manufacturer URL; ComponentLink1URL: http://www.national.com/; ComponentLink2Description: LM8207 Datasheet; ComponentLink2URL: http://www.national.com/ds/LM/LM8207.pdf; ComponentLink3Description: LM8207 Web Page; ComponentLink3URL: http://www.national.com/pf/LM/LM8207.html; ComponentLink4Description: MTD48 Package Page; ComponentLink4URL: http://www.national.com/packaging/folders/mtd48.html
footprint MTD48_N (TSSOP, 48-Leads, Body 12.5x6.1mm, Pitch 0.5mm, IPC Medium Density)
footprint MTD48_L (TSSOP, 48-Leads, Body 12.5x6.1mm, Pitch 0.5mm, IPC High Density)
footprint MTD48_M (TSSOP, 48-Leads, Body 12.5x6.1mm, Pitch 0.5mm, IPC Low Density)
pins: 1 OUT_VREF (out), 2 NC, 3 IN_1 (in), 4 IN_2 (in), 5 IN_3 (in), 6 IN_4 (in), 7 IN_5 (in), 8 IN_6 (in), 9 IN_7 (in), 10 IN_8 (in), 11 IN_9 (in), 12 VDD (power), 13 IN_10 (in), 14 IN_11 (in), 15 IN_12 (in), 16 IN_13 (in), 17 IN_14 (in), 18 IN_15 (in), 19 IN_16 (in), 20 IN_17 (in), 21 IN_18 (in), 22 NC, 23 NC, 24 IN_VCOM (in), 25 OUT_VCOM (out), 26 NC, 27 NC, 28 OUT_18 (out), 29 OUT_17 (out), 30 OUT_16 (out), 31 OUT_15 (out), 32 OUT_14 (out), 33 OUT_13 (out), 34 OUT_12 (out), 35 OUT_11 (out), 36 OUT_10 (out), 37 VSS (power), 38 OUT_9 (out), 39 OUT_8 (out), 40 OUT_7 (out), 41 OUT_6 (out), 42 OUT_5 (out), 43 OUT_4 (out), 44 OUT_3 (out), 45 OUT_2 (out), 46 OUT_1 (out), 47 NC, 48 IN_VREF (in)

## LM8207MTX/NOPB
designator U?
TFT 18 Gamma Buffer + Vcom Driver + Voltage Reference, 48-pin TSSOP, Pb-Free; PartNumber: LM8207MTX/NOPB; Manufacturer: National Semiconductor; PackageTopMarking: NSUZXYTTE#*LM8207MT; PowerWise: N; CompType: OtherParts; High-Reliability: Y; DatasheetVersion: Sep-2005; PackageVersion: revE, Apr-2003; PackageReference: MTD48; PackageDescription: Molded TSSOP, Jedec, 12.5 x 6.1 x 0.9mm Body, 48 Lead, 0.50mm Pitch; RoHS: Y; PinCount: 48; Code_JEDEC: MO-153-ED; ComponentLink1Description: Manufacturer URL; ComponentLink1URL: http://www.national.com/; ComponentLink2Description: LM8207 Datasheet; ComponentLink2URL: http://www.national.com/ds/LM/LM8207.pdf; ComponentLink3Description: LM8207 Web Page; ComponentLink3URL: http://www.national.com/pf/LM/LM8207.html; ComponentLink4Description: MTD48 Package Page; ComponentLink4URL: http://www.national.com/packaging/folders/mtd48.html
footprint MTD48_N (TSSOP, 48-Leads, Body 12.5x6.1mm, Pitch 0.5mm, IPC Medium Density)
footprint MTD48_L (TSSOP, 48-Leads, Body 12.5x6.1mm, Pitch 0.5mm, IPC High Density)
footprint MTD48_M (TSSOP, 48-Leads, Body 12.5x6.1mm, Pitch 0.5mm, IPC Low Density)
pins: 1 OUT_VREF (out), 2 NC, 3 IN_1 (in), 4 IN_2 (in), 5 IN_3 (in), 6 IN_4 (in), 7 IN_5 (in), 8 IN_6 (in), 9 IN_7 (in), 10 IN_8 (in), 11 IN_9 (in), 12 VDD (power), 13 IN_10 (in), 14 IN_11 (in), 15 IN_12 (in), 16 IN_13 (in), 17 IN_14 (in), 18 IN_15 (in), 19 IN_16 (in), 20 IN_17 (in), 21 IN_18 (in), 22 NC, 23 NC, 24 IN_VCOM (in), 25 OUT_VCOM (out), 26 NC, 27 NC, 28 OUT_18 (out), 29 OUT_17 (out), 30 OUT_16 (out), 31 OUT_15 (out), 32 OUT_14 (out), 33 OUT_13 (out), 34 OUT_12 (out), 35 OUT_11 (out), 36 OUT_10 (out), 37 VSS (power), 38 OUT_9 (out), 39 OUT_8 (out), 40 OUT_7 (out), 41 OUT_6 (out), 42 OUT_5 (out), 43 OUT_4 (out), 44 OUT_3 (out), 45 OUT_2 (out), 46 OUT_1 (out), 47 NC, 48 IN_VREF (in)

## LM8342SD
designator U?
Programmable TFT Vcom Calibrator with Non-Volatile Memory, 10-pin LLP; PartNumber: LM8342SD; Manufacturer: National Semiconductor; PackageTopMarking: ZXYTT*L8342; PowerWise: N; CompType: OtherParts; High-Reliability: Y; DatasheetVersion: Mar-2008; PackageVersion: revA, Oct-2003; PackageReference: SDA10A; PackageDescription: LLP, Plastic, Dual, 3 x 3 x 0.8mm Body, 10 Lead, 0.5mm Pitch, No Pullback; RoHS: N; PinCount: 11; ComponentLink1Description: Manufacturer URL; ComponentLink1URL: http://www.national.com/; ComponentLink2Description: LM8342 Datasheet; ComponentLink2URL: http://www.national.com/ds/LM/LM8342.pdf; ComponentLink3Description: LM8342 Web Page; ComponentLink3URL: http://www.national.com/pf/LM/LM8342.html; ComponentLink4Description: SDA10A Package Page; ComponentLink4URL: http://www.national.com/packaging/folders/sda10a.html
footprint SDA10A (SON, 10-Leads, Body 3x3 mm, Pitch 0.5mm, NSC Recommended)
pins: 1 OUT (out), 2 AVDD (power), 3 WPN (in), 4 WPP (out), 5 GND (power), 6 VDD (power), 7 SDA (io), 8 SCL (in), 9 SCL-S (in), 10 SET, 11 DAP (power)

## LM8342SD/NOPB
designator U?
Programmable TFT Vcom Calibrator with Non-Volatile Memory, 10-pin LLP, Pb-Free; PartNumber: LM8342SD/NOPB; Manufacturer: National Semiconductor; PackageTopMarking: ZXYTT*L8342; PowerWise: N; CompType: OtherParts; High-Reliability: Y; DatasheetVersion: Mar-2008; PackageVersion: revA, Oct-2003; PackageReference: SDA10A; PackageDescription: LLP, Plastic, Dual, 3 x 3 x 0.8mm Body, 10 Lead, 0.5mm Pitch, No Pullback; RoHS: Y; PinCount: 10; ComponentLink1Description: Manufacturer URL; ComponentLink1URL: http://www.national.com/; ComponentLink2Description: LM8342 Datasheet; ComponentLink2URL: http://www.national.com/ds/LM/LM8342.pdf; ComponentLink3Description: LM8342 Web Page; ComponentLink3URL: http://www.national.com/pf/LM/LM8342.html; ComponentLink4Description: SDA10A Package Page; ComponentLink4URL: http://www.national.com/packaging/folders/sda10a.html
footprint SDA10A (SON, 10-Leads, Body 3x3 mm, Pitch 0.5mm, NSC Recommended)
pins: 1 OUT (out), 2 AVDD (power), 3 WPN (in), 4 WPP (out), 5 GND (power), 6 VDD (power), 7 SDA (io), 8 SCL (in), 9 SCL-S (in), 10 SET, 11 DAP (power)

## LM8342SDX
designator U?
Programmable TFT Vcom Calibrator with Non-Volatile Memory, 10-pin LLP; PartNumber: LM8342SDX; Manufacturer: National Semiconductor; PackageTopMarking: ZXYTT*L8342; PowerWise: N; CompType: OtherParts; High-Reliability: Y; DatasheetVersion: Mar-2008; PackageVersion: revA, Oct-2003; PackageReference: SDA10A; PackageDescription: LLP, Plastic, Dual, 3 x 3 x 0.8mm Body, 10 Lead, 0.5mm Pitch, No Pullback; RoHS: N; PinCount: 10; ComponentLink1Description: Manufacturer URL; ComponentLink1URL: http://www.national.com/; ComponentLink2Description: LM8342 Datasheet; ComponentLink2URL: http://www.national.com/ds/LM/LM8342.pdf; ComponentLink3Description: LM8342 Web Page; ComponentLink3URL: http://www.national.com/pf/LM/LM8342.html; ComponentLink4Description: SDA10A Package Page; ComponentLink4URL: http://www.national.com/packaging/folders/sda10a.html
footprint SDA10A (SON, 10-Leads, Body 3x3 mm, Pitch 0.5mm, NSC Recommended)
pins: 1 OUT (out), 2 AVDD (power), 3 WPN (in), 4 WPP (out), 5 GND (power), 6 VDD (power), 7 SDA (io), 8 SCL (in), 9 SCL-S (in), 10 SET, 11 DAP (power)

## LM8342SDX/NOPB
designator U?
Programmable TFT Vcom Calibrator with Non-Volatile Memory, 10-pin LLP, Pb-Free; PartNumber: LM8342SDX/NOPB; Manufacturer: National Semiconductor; PackageTopMarking: ZXYTT*L8342; PowerWise: N; CompType: OtherParts; High-Reliability: Y; DatasheetVersion: Mar-2008; PackageVersion: revA, Oct-2003; PackageReference: SDA10A; PackageDescription: LLP, Plastic, Dual, 3 x 3 x 0.8mm Body, 10 Lead, 0.5mm Pitch, No Pullback; RoHS: Y; PinCount: 10; ComponentLink1Description: Manufacturer URL; ComponentLink1URL: http://www.national.com/; ComponentLink2Description: LM8342 Datasheet; ComponentLink2URL: http://www.national.com/ds/LM/LM8342.pdf; ComponentLink3Description: LM8342 Web Page; ComponentLink3URL: http://www.national.com/pf/LM/LM8342.html; ComponentLink4Description: SDA10A Package Page; ComponentLink4URL: http://www.national.com/packaging/folders/sda10a.html
footprint SDA10A (SON, 10-Leads, Body 3x3 mm, Pitch 0.5mm, NSC Recommended)
pins: 1 OUT (out), 2 AVDD (power), 3 WPN (in), 4 WPP (out), 5 GND (power), 6 VDD (power), 7 SDA (io), 8 SCL (in), 9 SCL-S (in), 10 SET, 11 DAP (power)

## LM9822CCWM
designator U?
3 Channel 42-Bit Color Scanner Analog Front End, 28-pin Wide SOIC; PartNumber: LM9822CCWM; Manufacturer: National Semiconductor; PackageTopMarking: NSUZXYTT*LM9822*CCWM; PowerWise: N; CompType: OtherParts; High-Reliability: Y; DatasheetVersion: May-1999; PackageVersion: revB, Nov-1997; PackageReference: M28B; PackageDescription: Molded Package, S.O., .300in Wide, 28 Lead; RoHS: Y; PinCount: 28; ComponentLink1Description: Manufacturer URL; ComponentLink1URL: http://www.national.com/; ComponentLink2Description: LM9822 Datasheet; ComponentLink2URL: http://www.national.com/ds/LM/LM9822.pdf; ComponentLink3Description: LM9822 Web Page; ComponentLink3URL: http://www.national.com/pf/LM/LM9822.html; ComponentLink4Description: M28B Package Page; ComponentLink4URL: http://www.national.com/packaging/folders/m28b.html
footprint M28B_N (SOIC, 28-Leads, Body 17.9x7.5mm, Pitch 1.27mm, IPC Medium Density)
footprint M28B_L (SOIC, 28-Leads, Body 17.9x7.5mm, Pitch 1.27mm, IPC High Density)
footprint M28B_M (SOIC, 28-Leads, Body 17.9x7.5mm, Pitch 1.27mm, IPC Low Density)
pins: 1 VBANDGAP, 2 VREFMID (power), 3 VA (power), 4 AGND, 5 OSR (in), 6 VREF+ (power), 7 OSG (in), 8 VREF- (power), 9 OSB (in), 10 VA (power), 11 AGND, 12 ~{SEN} (in), 13 SDI (in), 14 SDO (out), 15 SCLK (in), 16 MCLK (in), 17 VSMP (in), 18 CLMP (in), 19 DGND (power), 20 VD, 21 D0 (out), 22 D1 (out), 23 D2 (out), 24 D3 (out), 25 D4 (out), 26 D5 (out), 27 D6 (out), 28 D7 (out)

## LM9822CCWM/NOPB
designator U?
3 Channel 42-Bit Color Scanner Analog Front End, 28-pin Wide SOIC, Pb-Free; PartNumber: LM9822CCWM/NOPB; Manufacturer: National Semiconductor; PackageTopMarking: NSUZXYTTE#*LM9822*CCWM; PowerWise: N; CompType: OtherParts; High-Reliability: Y; DatasheetVersion: May-1999; PackageVersion: revB, Nov-1997; PackageReference: M28B; PackageDescription: Molded Package, S.O., .300in Wide, 28 Lead; RoHS: Y; PinCount: 28; ComponentLink1Description: Manufacturer URL; ComponentLink1URL: http://www.national.com/; ComponentLink2Description: LM9822 Datasheet; ComponentLink2URL: http://www.national.com/ds/LM/LM9822.pdf; ComponentLink3Description: LM9822 Web Page; ComponentLink3URL: http://www.national.com/pf/LM/LM9822.html; ComponentLink4Description: M28B Package Page; ComponentLink4URL: http://www.national.com/packaging/folders/m28b.html
footprint M28B_N (SOIC, 28-Leads, Body 17.9x7.5mm, Pitch 1.27mm, IPC Medium Density)
footprint M28B_L (SOIC, 28-Leads, Body 17.9x7.5mm, Pitch 1.27mm, IPC High Density)
footprint M28B_M (SOIC, 28-Leads, Body 17.9x7.5mm, Pitch 1.27mm, IPC Low Density)
pins: 1 VBANDGAP, 2 VREFMID (power), 3 VA (power), 4 AGND, 5 OSR (in), 6 VREF+ (power), 7 OSG (in), 8 VREF- (power), 9 OSB (in), 10 VA (power), 11 AGND, 12 ~{SEN} (in), 13 SDI (in), 14 SDO (out), 15 SCLK (in), 16 MCLK (in), 17 VSMP (in), 18 CLMP (in), 19 DGND (power), 20 VD, 21 D0 (out), 22 D1 (out), 23 D2 (out), 24 D3 (out), 25 D4 (out), 26 D5 (out), 27 D6 (out), 28 D7 (out)

## LM9830VJD
designator U?
36-Bit Color Document Scanner, 100-pin TQFP; PartNumber: LM9830VJD; Manufacturer: National Semiconductor; PackageTopMarking: NS2ZXYYTTE#*LM9830VJD; PowerWise: N; CompType: OtherParts; High-Reliability: Y; DatasheetVersion: Nov-1998; PackageVersion: revC, May-2004; PackageReference: VJD100A; PackageDescription: TQFP, Jedec, Metric, 14 x 14 x 1.0mm, 100 Lead; RoHS: N; PinCount: 100; Code_JEDEC: MS-026-AED; ComponentLink1Description: Manufacturer URL; ComponentLink1URL: http://www.national.com/; ComponentLink2Description: LM9830 Datasheet; ComponentLink2URL: http://www.national.com/ds/LM/LM9830.pdf; ComponentLink3Description: LM9830 Web Page; ComponentLink3URL: http://www.national.com/pf/LM/LM9830.html; ComponentLink4Description: VJD100A Package Page; ComponentLink4URL: http://www.national.com/packaging/folders/vjd100a.html
footprint VJD100A_N (Thin QFP, 100-Leads, Body 14x14mm, Pitch 0.5mm, IPC Medium Density)
footprint VJD100A_L (Thin QFP, 100-Leads, Body 14x14mm, Pitch 0.5mm, IPC High Density)
footprint VJD100A_M (Thin QFP, 100-Leads, Body 14x14mm, Pitch 0.5mm, IPC Low Density)
pins: 1 A0 (out), 2 A1 (out), 3 A2 (out), 4 A3 (out), 5 A4 (out), 6 VD I/O (power), 7 DGNDI/O (power), 8 A5 (out), 9 A6 (out), 10 A7 (out), 11 A8 (out), 12 A9 (out), 13 A10 (out), 14 A11 (out), 15 A12 (out), 16 A13 (out), 17 A14 (out), 18 A15 (out), 19 VD I/O (power), 20 DGNDI/O (power), 21 A16 (out), 22 A17 (out), 23 DB0 (io), 24 DB1 (io), 25 DB2 (io), 26 DB3 (io), 27 DB4 (io), 28 DB5 (io), 29 DB6 (io), 30 DB7 (io), 31 VD (power), 32 DGND (power), 33 ~{RD} (out), 34 ~{WR} (out), 35 ~{STROBE} (in), 36 ~{AUTOFEED} (hiz), 37 D0 (io), 38 ~{ERROR} (out), 39 D1 (io), 40 ~{INIT} (in), 41 D2 (io), 42 ~{SELECTIN} (in), 43 D3 (io), 44 VD I/O (power), 45 DGNDI/O (power), 46 D4 (io), 47 D5 (io), 48 D6 (io), 49 D7 (io), 50 ~{ACK} (out), 51 BUSY (out), 52 PE (out), 53 SELECT, 54 TRISTATE (out), 55 NC, 56 ~{LATCH} (hiz), 57 CRYSTAL IN (in), 58 CRYSTAL OUT (out), 59 VSRAM (power), 60 DGNDSRAM (power), 61 PSENSE #1 (in), 62 PSENSE #2 (in), 63 MISC I/O #1 (io), 64 MISC I/O #2 (io), 65 LAMPR (out), 66 LAMPG (out), 67 LAMPB (out), 68 CMODE (in), 69 VD I/O (power), 70 DGNDI/O (power), 71 CLK_SEL (in), 72 A (out), 73 ~{A} (out), 74 B (out), 75 ~{B} (out), 76 TEST (out), 77 SENSEA (in), 78 SENSEB (in), 79 SENSEGND (in), 80 VA (power), 81 AGND (power), 82 VBANDGAP (out), 83 VREF LO FORCE (io), 84 VREF LO SENSE (io), 85 OSR (in), 86 VREF MID FORCE (io), 87 VREF MID SENSE (io), 88 OSG (in), 89 VREF HI FORCE (io), 90 VREF HI SENSE (io), 91 OSB (in), 92 VA (power), 93 AGND (power), 94 TR1 (out), 95 TR2 (out), 96 ø1 (out), 97 ø2 (out), 98 RS (out), 99 CP1 (out), 100 CP2 (out)

## LM9833CCVJD
designator U?
48-Bit Color, 1200dpi USB Image Scanner, 100-pin TQFP; PartNumber: LM9833CCVJD; Manufacturer: National Semiconductor; PackageTopMarking: NSUZXYYTT*LM9833CCVJD; PowerWise: N; CompType: OtherParts; High-Reliability: Y; DatasheetVersion: Oct-2001; PackageVersion: revC, May-2004; PackageReference: VJD100A; PackageDescription: TQFP, Jedec, Metric, 14 x 14 x 1.0mm, 100 Lead; RoHS: Y; PinCount: 100; Code_JEDEC: MS-026-AED; ComponentLink1Description: Manufacturer URL; ComponentLink1URL: http://www.national.com/; ComponentLink2Description: LM9833 Datasheet; ComponentLink2URL: http://www.national.com/ds/LM/LM9833.pdf; ComponentLink3Description: LM9833 Web Page; ComponentLink3URL: http://www.national.com/pf/LM/LM9833.html; ComponentLink4Description: VJD100A Package Page; ComponentLink4URL: http://www.national.com/packaging/folders/vjd100a.html
footprint VJD100A_N (Thin QFP, 100-Leads, Body 14x14mm, Pitch 0.5mm, IPC Medium Density)
footprint VJD100A_L (Thin QFP, 100-Leads, Body 14x14mm, Pitch 0.5mm, IPC High Density)
footprint VJD100A_M (Thin QFP, 100-Leads, Body 14x14mm, Pitch 0.5mm, IPC Low Density)
pins: 1 VBANDGAP (power), 2 VREF LO (power), 3 OSR (in), 4 VREF MID (power), 5 OSG (in), 6 VREF HI (power), 7 OSB (in), 8 AGND (power), 9 VA (power), 10 A (out), 11 ~{A} (out), 12 B (out), 13 ~{B} (out), 14 D0 (io), 15 D15 (io), 16 VDRAM (power), 17 DGND (power), 18 D1 (io), 19 D14 (io), 20 D2 (io), 21 D13 (io), 22 D3 (io), 23 D12 (io), 24 D4 (io), 25 D11 (io), 26 D5 (io), 27 D10 (io), 28 D6 (io), 29 D9 (io), 30 VDRAM (power), 31 DGND (power), 32 D7 (io), 33 D8 (io), 34 ~{CAS} (out), 35 ~{WR} (out), 36 ~{RAS} (out), 37 ~{RD} (out), 38 A9 (out), 39 A8 (out), 40 A0 (out), 41 A7 (out), 42 A1 (out), 43 VDRAM (power), 44 DGND (power), 45 A6 (out), 46 A2 (out), 47 A5 (out), 48 A3 (out), 49 A4 (out), 50 SDA (io), 51 SCL (out), 52 CRYSTAL OUT (out), 53 CRYSTAL IN (in), 54 ~{CRYSTAL/EXT CLK} (in), 55 24/~{48} (in), 56 VD (power), 57 DGND (power), 58 LAMPR (out), 59 LAMPG (out), 60 LAMPB (out), 61 DGND (power), 62 VD (power), 63 PAPER SENSE 2 (in), 64 PAPER SENSE 1 (in), 65 MISC I/O 1 (io), 66 MISC I/O 2 (io), 67 MISC I/O 3 (io), 68 VD (power), 69 DGND (power), 70 MISC I/O 4 (io), 71 MISC I/O 5 (io), 72 MISC I/O 6 (io), 73 TR1 (out), 74 TR2 (power), 75 ø1 (out), 76 ø2 (out), 77 RS (out), 78 CP1 (out), 79 CP2 (out), 80 ACTIVE/~{SUSPENDED} (out), 81 DGND (power), 82 VREGULATOR (power), 83 D- (io), 84 D+ (io), 85 ~{BUS POWR} (in), 86 VD (power), 87 DGND (power), 88 NC, 89 NC, 90 RESET (in), 91 CMODE (in), 92 NC, 93 SENSEB (in), 94 SENSEA (in), 95 SENSEGND (power), 96 TEST, 97 VD (power), 98 DGND (power), 99 VA (power), 100 AGND (power)

## LM95010CIMM
designator U?
Digital Temperature Sensor with SensorPath Bus8 Package, 8-pin Mini SOIC; PartNumber: LM95010CIMM; Manufacturer: National Semiconductor; PackageTopMarking: ZXTT*T19C; PowerWise: N; CompType: OtherParts; High-Reliability: Y; DatasheetVersion: Nov-2003; PackageVersion: revF, Apr-2008; PackageReference: MUA08A; PackageDescription: MINI SOIC, .118 x .118 x .034in, 8 Lead, .0256in Pitch; RoHS: N; PinCount: 8; Code_JEDEC: MO-187-AA; ComponentLink1Description: Manufacturer URL; ComponentLink1URL: http://www.national.com/; ComponentLink2Description: LM95010 Datasheet; ComponentLink2URL: http://www.national.com/ds/LM/LM95010.pdf; ComponentLink3Description: LM95010 Web Page; ComponentLink3URL: http://www.national.com/pf/LM/LM95010.html; ComponentLink4Description: MUA08A Package Page; ComponentLink4URL: http://www.national.com/packaging/folders/mua08a.html
footprint MUA08A_N (TSOP, 8-Leads, Body 3x3mm, Pitch 0.65mm, IPC Medium Density)
footprint MUA08A_L (TSOP, 8-Leads, Body 3x3mm, Pitch 0.65mm, IPC High Density)
footprint MUA08A_M (TSOP, 8-Leads, Body 3x3mm, Pitch 0.65mm, IPC Low Density)
pins: 1 V+/3.3V_SB (power), 2 NC, 3 NC, 4 NC, 5 GND (power), 6 ADD0 (in), 7 ADD1 (in), 8 SWD (io)

## LM95010CIMMX
designator U?
Digital Temperature Sensor with SensorPath Bus8 Package, 8-pin Mini SOIC; PartNumber: LM95010CIMMX; Manufacturer: National Semiconductor; PackageTopMarking: ZXTT*T19C; PowerWise: N; CompType: OtherParts; High-Reliability: Y; DatasheetVersion: Nov-2003; PackageVersion: revF, Apr-2008; PackageReference: MUA08A; PackageDescription: MINI SOIC, .118 x .118 x .034in, 8 Lead, .0256in Pitch; RoHS: N; PinCount: 8; Code_JEDEC: MO-187-AA; ComponentLink1Description: Manufacturer URL; ComponentLink1URL: http://www.national.com/; ComponentLink2Description: LM95010 Datasheet; ComponentLink2URL: http://www.national.com/ds/LM/LM95010.pdf; ComponentLink3Description: LM95010 Web Page; ComponentLink3URL: http://www.national.com/pf/LM/LM95010.html; ComponentLink4Description: MUA08A Package Page; ComponentLink4URL: http://www.national.com/packaging/folders/mua08a.html
footprint MUA08A_N (TSOP, 8-Leads, Body 3x3mm, Pitch 0.65mm, IPC Medium Density)
footprint MUA08A_L (TSOP, 8-Leads, Body 3x3mm, Pitch 0.65mm, IPC High Density)
footprint MUA08A_M (TSOP, 8-Leads, Body 3x3mm, Pitch 0.65mm, IPC Low Density)
pins: 1 V+/3.3V_SB (power), 2 NC, 3 NC, 4 NC, 5 GND (power), 6 ADD0 (in), 7 ADD1 (in), 8 SWD (io)

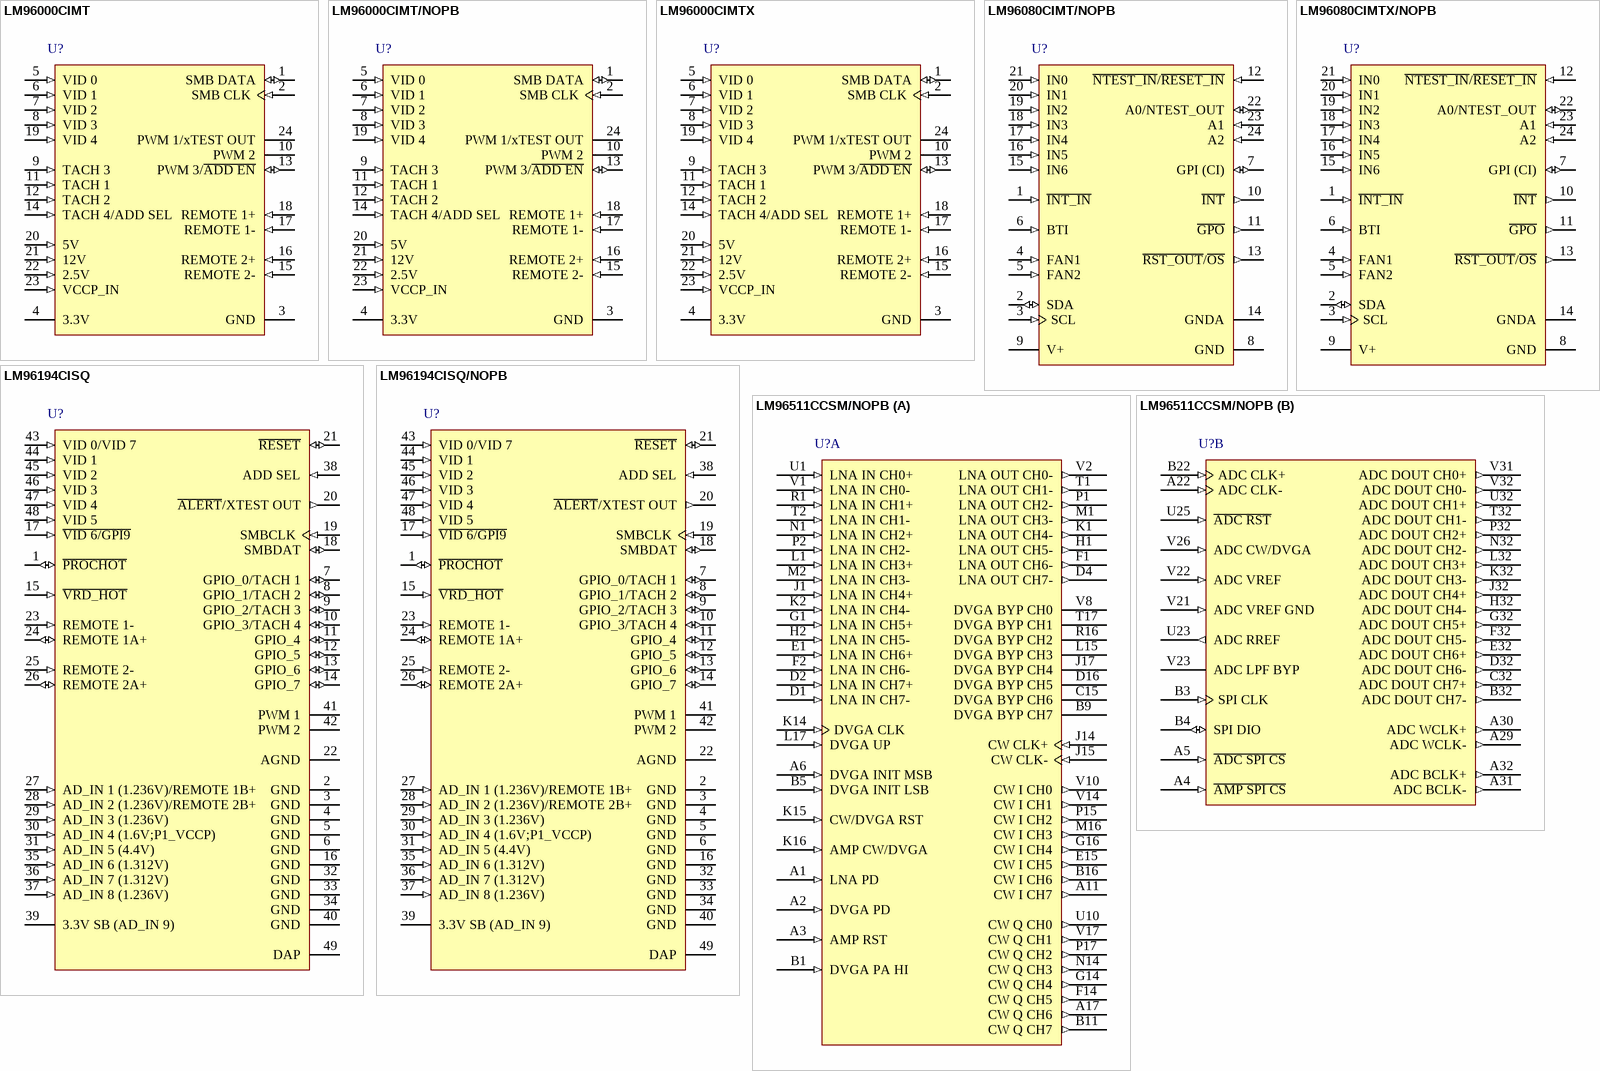
[diagram p7: symbols LM96000CIMT to LM96511CCSM/NOPB]